# EAGLE library part AY-3-8912 (library general-instrument)
Programmable sound generator
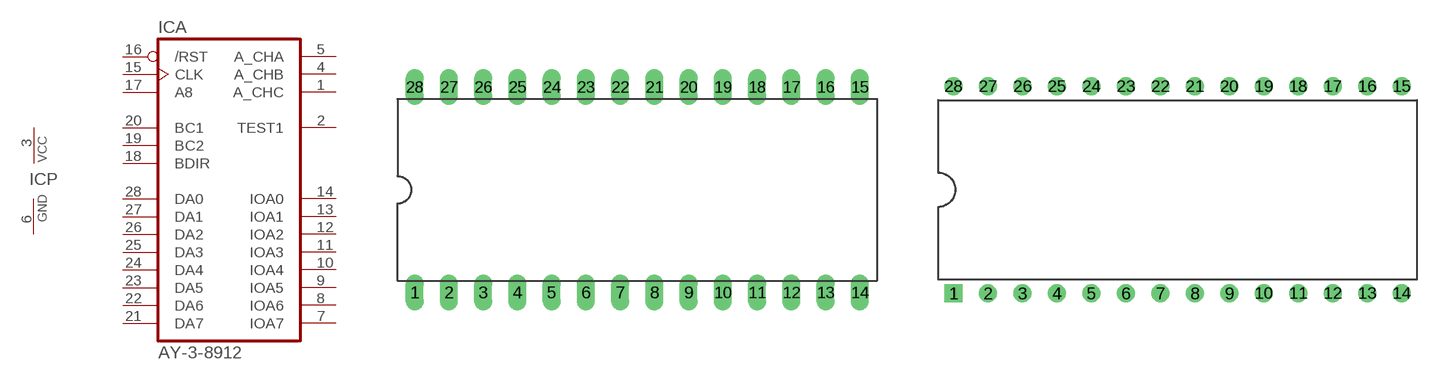
[diagram p0: symbol with the pads of DIL28-6; footprints DIL28-6, DIL28-6-RP]

Designator prefix IC; gates P=PWRN A=AY-3-8912

## AY-3-8912  [DIL28-6]
1  A:A_CHC  out
2  A:TEST1  in
3  P:VCC  pwr
4  A:A_CHB  out
5  A:A_CHA  out
6  P:GND  pwr
7  A:IOA7
8  A:IOA6
9  A:IOA5
10  A:IOA4
11  A:IOA3
12  A:IOA2
13  A:IOA1
14  A:IOA0
15  A:CLK  in
16  A:/RST  in
17  A:A8  in
18  A:BDIR  in
19  A:BC2  in
20  A:BC1  in
21  A:DA7
22  A:DA6
23  A:DA5
24  A:DA4
25  A:DA3
26  A:DA2
27  A:DA1
28  A:DA0

## AY-3-8912R  [DIL28-6-RP]
Pads as for DIL28-6

## Footprint DIL28-6 (pad centres in mm)
Dual In Line Package
drill 0.813 long: 1 -16.51,-7.62; 2 -13.97,-7.62; 3 -11.43,-7.62; 4 -8.89,-7.62; 5 -6.35,-7.62; 6 -3.81,-7.62; 7 -1.27,-7.62; 8 1.27,-7.62; 9 3.81,-7.62; 10 6.35,-7.62; 11 8.89,-7.62; 12 11.43,-7.62; 13 13.97,-7.62; 14 16.51,-7.62; 15 16.51,7.62; 16 13.97,7.62; 17 11.43,7.62; 18 8.89,7.62; 19 6.35,7.62; 20 3.81,7.62; 21 1.27,7.62; 22 -1.27,7.62; 23 -3.81,7.62; 24 -6.35,7.62; 25 -8.89,7.62; 26 -11.43,7.62; 27 -13.97,7.62; 28 -16.51,7.62

## Footprint DIL28-6-RP (pad centres in mm)
Dual In Line 0.6 inch
drill 0.813 square: 1 -16.51,-7.62
drill 0.813: 2 -13.97,-7.62; 3 -11.43,-7.62; 4 -8.89,-7.62; 5 -6.35,-7.62; 6 -3.81,-7.62; 7 -1.27,-7.62; 8 1.27,-7.62; 9 3.81,-7.62; 10 6.35,-7.62; 11 8.89,-7.62; 12 11.43,-7.62; 13 13.97,-7.62; 14 16.51,-7.62; 15 16.51,7.62; 16 13.97,7.62; 17 11.43,7.62; 18 8.89,7.62; 19 6.35,7.62; 20 3.81,7.62; 21 1.27,7.62; 22 -1.27,7.62; 23 -3.81,7.62; 24 -6.35,7.62; 25 -8.89,7.62; 26 -11.43,7.62; 27 -13.97,7.62; 28 -16.51,7.62